# EAGLE library part MP1584EN (library e-Lib-IC-Power)
MP1584EN - DC Buck converter The MP1584 is a high frequency step-down switching regulator with an integrated internal high-side high voltage power MOSFET. It provides 3A output with current mode control for fast loop response and easy compensation. Features: Wide 4.5V to 28V Operating Input Range Up to 1.5MHz Programmable Switching Frequency High-Efficiency Pulse Skipping Mode for Light Load Ceramic Capacitor Stable Internal Soft-Start Internally Set Current Limit without a Current Sensing Resistor Datasheet: MP1584EN <http://www.haoyuelectronics.com/Attachment/MP1584/MP1584.pdf>
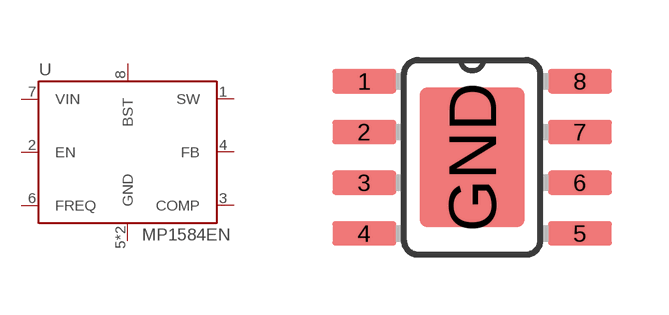
[diagram p0: symbol with the pads of SOIC8-EXPOSED-PAD; footprint SOIC8-EXPOSED-PAD]

Designator prefix U

## MP1584EN  [SOIC8-EXPOSED-PAD]
1  SW  out
2  EN  in
3  COMP  out
4  FB  in
5  GND  pwr
6  FREQ  in
7  VIN  pwr
8  BST  in
GND  GND  pwr

## Footprint SOIC8-EXPOSED-PAD (pad centres in mm)
smd 1.6 x 0.61: 1 -2.7,1.905; 2 -2.7,0.635; 3 -2.7,-0.635; 4 -2.7,-1.905; 5 2.7,-1.905; 6 2.7,-0.635; 7 2.7,0.635; 8 2.7,1.905
smd 2.62 x 3.51: GND 0,0